# Altium schematic symbol library QSE-020-01-X-D-A.SCHLIB: 1 symbol
Pins are listed as number, name and electrical type; pins without a type are passive.

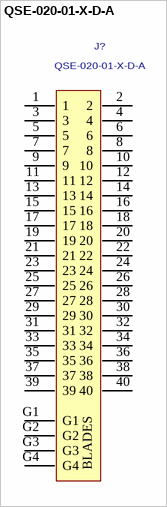
[diagram p0: symbol QSE-020-01-X-D-A]

## QSE-020-01-X-D-A
designator J?
0.8MM DOUBLE ROW HS SOCKET ASSEMBLY
pins: 1, 2, 3, 4, 5, 6, 7, 8, 9, 10, 11, 12, 13, 14, 15, 16, 17, 18, 19, 20, 21, 22, 23, 24, 25, 26, 27, 28, 29, 30, 31, 32, 33, 34, 35, 36, 37, 38, 39, 40, G1, G2, G3, G4
text: BLADES